# Altium schematic symbol library AVR_Atxmega16a4u_1.Schlib: 1 symbol
Pins are listed as number, name and electrical type; pins without a type are passive.

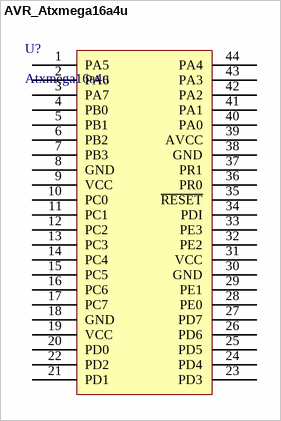
[diagram p0: symbol AVR_Atxmega16a4u]

## AVR_Atxmega16a4u
designator U?, comment Atxmega16a4u
footprint TQFP80P1200X1200X120-44N (TQFP, 44-Leads, Body 10.00x10.00mm, Pitch 0.80mm, IPC Medium Density)
pins: 1 PA5, 2 PA6, 3 PA7, 4 PB0, 5 PB1, 6 PB2, 7 PB3, 8 GND, 9 VCC, 10 PC0, 11 PC1, 12 PC2, 13 PC3, 14 PC4, 15 PC5, 16 PC6, 17 PC7, 18 GND, 19 VCC, 20 PD0, 21 PD1, 22 PD2, 23 PD3, 24 PD4, 25 PD5, 26 PD6, 27 PD7, 28 PE0, 29 PE1, 30 GND, 31 VCC, 32 PE2, 33 PE3, 34 PDI, 35 ~{RESET}, 36 PR0, 37 PR1, 38 GND, 39 AVCC, 40 PA0, 41 PA1, 42 PA2, 43 PA3, 44 PA4